# Altium schematic symbol library 自用.SchLib: 234 symbols (part 1 of 3)
Pins are listed as number, name and electrical type; pins without a type are passive.

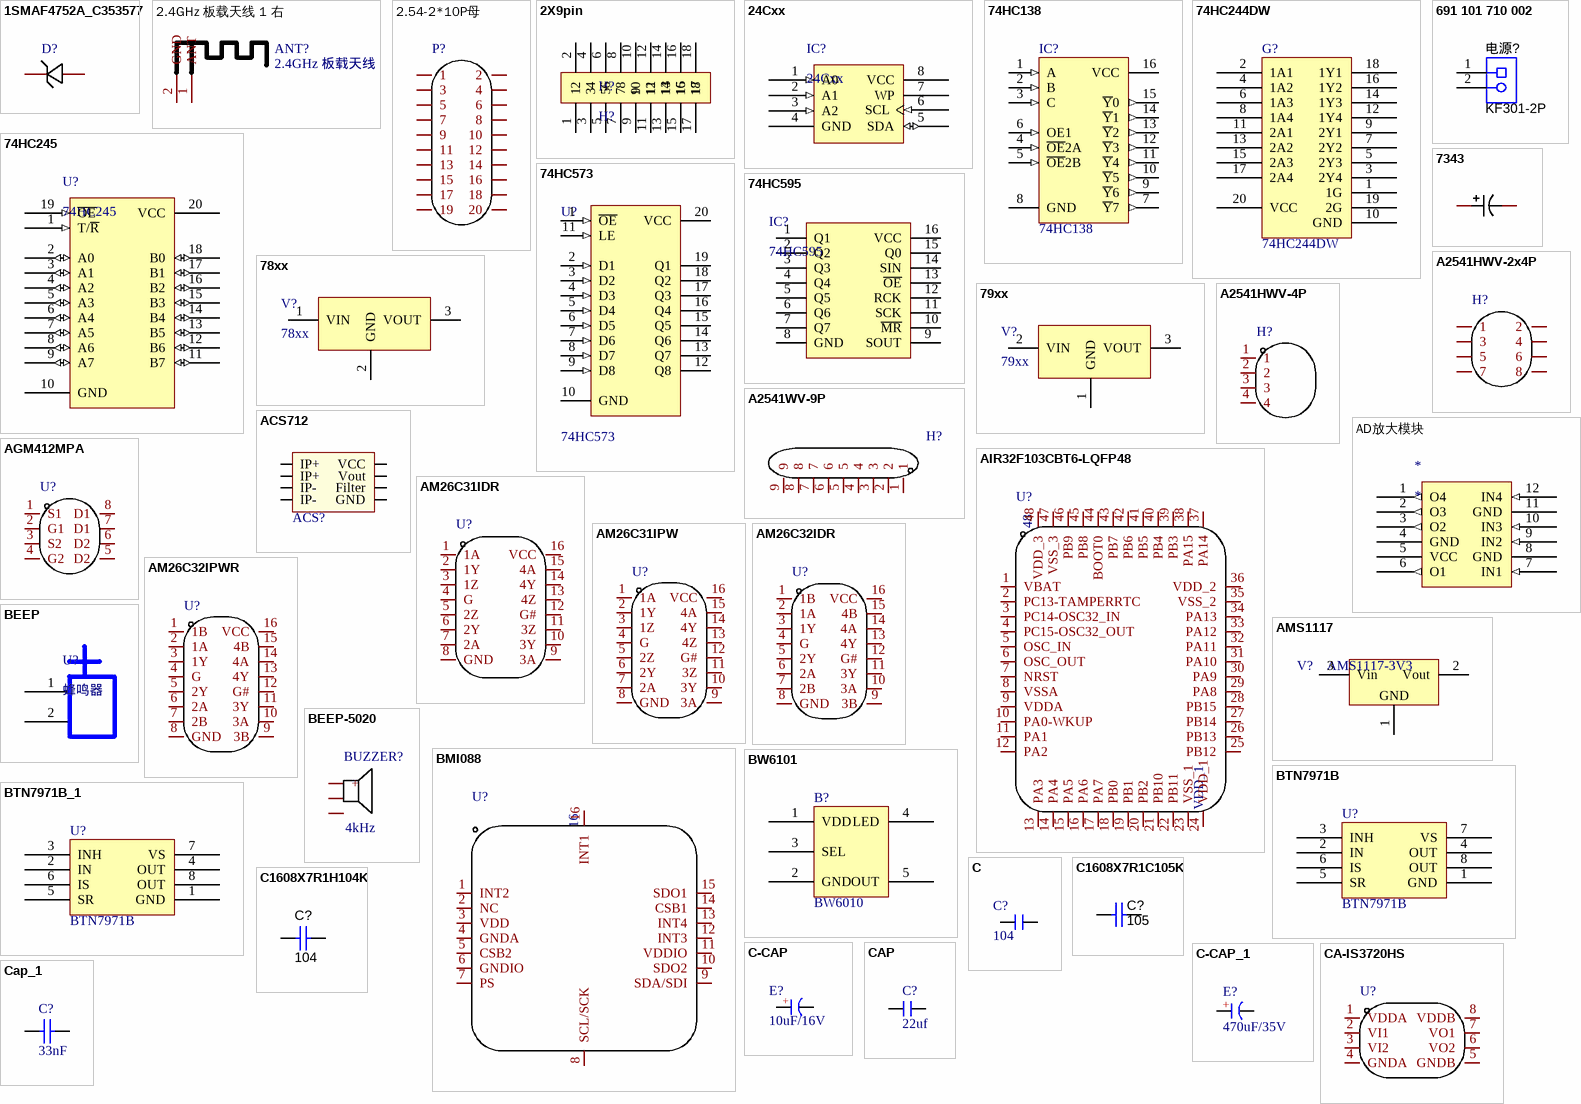
[diagram p0: symbols 1SMAF4752A_C353577 to Cap_1]

## 1SMAF4752A_C353577
designator D?  (value not drawn)
二极管配置:独立式;稳压值(标称值):33V;稳压值(范围):31.3V~34.9V;功率:1W;精度:±5%;; Manufacturer: 晶导微电子; Add into BOM: yes; Diode Configuration: 独立式; Zener Voltage (Nom): 33V; Reverse Leakage Current (Ir): 5uA@25V; Power Dissipation: 1W; Zener Impedance (Zzt): 45Ω; Tolerance: ±5%; Symbol: 1SMAF4752A; Device: 1SMAF4752A_C353577; LCSC Part Name: 1SMAF4752A; Supplier Part: C353577; Manufacturer Part: 1SMAF4752A; Supplier Footprint: SMAF; JLCPCB Part Class: Extended Part; Datasheet: https://atta.szlcsc.com/upload/public/pdf/source/20190103/C353591_7901ADC02E232AF6D8BA6DA3A998DE27.pdf; Supplier: LCSC; Convert to PCB: yes; Zener Voltage (Range): 31.3V~34.9V
footprint SMAF_L3.5-W2.6-LS4.7-RD
3D model SMAF_L3.5-W2.6-LS4.7-RD-1
pins: 1, 2

## 2.4GHz 板载天线 1 右
designator ANT?, comment 2.4GHz 板载天线
Symbol: 2.4GHz 板载天线 1 右; Add into BOM: no; Convert to PCB: yes; Device: 2.4GHz 板载天线 1 右; Name: 2.4GHz 板载天线
footprint 2.4GHz 板载天线 1 右
pins: 1 ANT, 2 GND

## 2.54-2*10P母
designator P?  (value not drawn)
间距:2.54mm;总孔位数:20;排数:2;行距:2.54mm;安装类型:直插;塑高:-;触头材质:黄铜;触头镀层:-;; Manufacturer: BOOMELE(博穆精密); Symbol: Header-Female-2.54_2x10; Add into BOM: yes; Pitch: 2.54mm; Number of Holes: 20; Device: 2.54-2*10P母; LCSC Part Name: 2x10P 2.54mm; Supplier Part: C30867; Manufacturer Part: 2.54-2*10P母; Supplier Footprint: 插件,P=2.54mm; JLCPCB Part Class: Extended Part; Datasheet: https://atta.szlcsc.com/upload/public/pdf/source/20151201/1457707599164.pdf; Supplier: LCSC; Convert to PCB: yes; Number of Rows: 2; Row Spacing: 2.54mm; Mounting Type: 直插; Insulation Height: -; Contact Material: 黄铜; Contact Plating: -
footprint HDR-TH_20P-P2.54-V-R2-C10-S2.54
3D model HDR-F-2.54_2x10
footprint HDR-TH_20P-P2.54-V-R2-C10-S2.54
pins: 1, 2, 3, 4, 5, 6, 7, 8, 9, 10, 11, 12, 13, 14, 15, 16, 17, 18, 19, 20

## 2X9pin
designator H?, comment H?
pins: 1, 2, 3, 4, 5, 6, 7, 8, 9, 10, 11, 12, 13, 14, 15, 16, 17, 18

## 24Cxx
designator IC?
外置EEPROM; 版权归属: 源创客; BOM名称: 外置EEPROM; 学习资源: www.ooocke.com
footprint SOP8 (（蒜米工坊）)
pins: 1 A0 (in), 2 A1 (in), 3 A2 (in), 4 GND, 5 SDA (io), 6 SCL (in), 7 WP, 8 VCC (power)

## 74HC138
designator IC?
138译码器; 版权归属: 源创客; 学习资源: www.ooocke.com; BOM名称: 138译码器
footprint SOP16_M (10.3*6.2*1.8mm（长宽高）)
pins: 1 A (in), 2 B (in), 3 C (in), 4 ~{OE}2A (in), 5 ~{OE}2B (in), 6 OE1 (in), 7 ~{Y}7 (out), 8 GND (power), 9 ~{Y}6 (out), 10 ~{Y}5 (out), 11 ~{Y}4 (out), 12 ~{Y}3 (out), 13 ~{Y}2 (out), 14 ~{Y}1 (out), 15 ~{Y}0 (out), 16 VCC (power)

## 74HC244DW
designator G?
footprint LQ_TSSOP20
footprint LQ_TSSOP20S
pins: 1 1G, 2 1A1, 3 2Y4, 4 1A2, 5 2Y3, 6 1A3, 7 2Y2, 8 1A4, 9 2Y1, 10 GND, 11 2A1, 12 1Y4, 13 2A2, 14 1Y3, 15 2A3, 16 1Y2, 17 2A4, 18 1Y1, 19 2G, 20 VCC

## 74HC245
designator U?
footprint SOP20_M (13*10.6*2.6（长宽高）)
pins: 1 T/~{R} (in), 2 A0 (io), 3 A1 (io), 4 A2 (io), 5 A3 (io), 6 A4 (io), 7 A5 (io), 8 A6 (io), 9 A7 (io), 10 GND, 11 B7 (io), 12 B6 (io), 13 B5 (io), 14 B4 (io), 15 B3 (io), 16 B2 (io), 17 B1 (io), 18 B0 (io), 19 ~{OE} (in), 20 VCC

## 74HC573
designator U?
D类三态输出锁存器; 版权归属: 源创客; BOM名称: 三态输出锁存器; 学习资源: www.ooocke.com
footprint SOP20_M (13*10.6*2.6（长宽高）)
pins: 1 ~{OE} (in), 2 D1 (in), 3 D2 (in), 4 D3 (in), 5 D4 (in), 6 D5 (in), 7 D6 (in), 8 D7 (in), 9 D8 (in), 10 GND (power), 11 LE (in), 12 Q8 (hiz), 13 Q7 (hiz), 14 Q6 (hiz), 15 Q5 (hiz), 16 Q4 (hiz), 17 Q3 (hiz), 18 Q2 (hiz), 19 Q1 (hiz), 20 VCC (power)

## 74HC595
designator IC?
8位移位寄存器; 版权归属: 源创客; BOM名称: 8位移位寄存器; 学习资源: www.ooocke.com
footprint SOP16_M (10.3*6.2*1.8mm（长宽高）)
pins: 1 Q1, 2 Q2, 3 Q3, 4 Q4, 5 Q5, 6 Q6, 7 Q7, 8 GND, 9 SOUT, 10 ~{MR}, 11 SCK, 12 RCK, 13 ~{OE}, 14 SIN, 15 Q0, 16 VCC

## 78xx
designator V?
线性稳压芯片; 版权归属: 源创客; BOM名称: 线性稳压芯片; 学习资源: www.ooocke.com
footprint TO252 (252晶体管)
footprint TO220A (220，3脚晶体管)
footprint TO220B (220，3脚晶体管)
footprint TO220C (220，3脚晶体管)
pins: 1 VIN, 2 GND, 3 VOUT

## 79xx
designator V?
线性稳压芯片; 版权归属: 源创客; BOM名称: 线性稳压芯片; 学习资源: www.ooocke.com
footprint TO252 (252晶体管)
footprint TO220A (220，3脚晶体管)
footprint TO220B (220，3脚晶体管)
footprint TO220C (220，3脚晶体管)
pins: 1 GND, 2 VIN, 3 VOUT

## 691 101 710 002
designator 电源?, comment KF301-2P
PartNumber: 691 101 710 002; Manufacturer: Wurth Elektronik eiSos; SymbolCreator: a0412235; CompType: Terminal Block; U/M: EA; SymbolVersion: 2013-09-04; PackageReference: Terminal Block, 5 mm, 2x1, TH; RoHS: Y; MountType: TH; ComponentLink1Description: Datasheet Link; ComponentLink1URL: http://katalog.we-online.de/em/datasheet/6911017100xx.pdf; Publisher: Texas Instruments; LatestRevisionDate: 2015-02-03; Supplier 1: Digi-Key; Supplier Part Number 1: 732-2026-ND; Supplier 2: Mouser; Supplier Part Number 2: 710-691101710002
footprint Wurth_691101710002
footprint LQ_PIN2
pins: 1, 2

## 7343
designator ?, comment T520V227M010ATE045  (value not drawn)
Manufacturer: KEMET(基美); Add into BOM: yes; Rated Voltage: 10V; Equivalent Series Resistance(ESR): 45mΩ 100kHz; Value: 220uF; Tolerance: ±20%; Symbol: T520V227M010ATE045; Device: T520V227M010ATE045; LCSC Part Name: 220uF ±20%; Supplier Part: C696811; Manufacturer Part: T520V227M010ATE045; Supplier Footprint: 7343-20; JLCPCB Part Class: Extended Part; Datasheet: https://atta.szlcsc.com/upload/public/pdf/source/20200618/C561875_0A5592AD2351515E8EDE474294F0F075.pdf; Supplier: LCSC; Convert to PCB: yes; Operating Temperature: -55℃~+105℃
3D model CASE-E_L7.3-W4.3-H4.1
pins: 1, 2

## A2541HWV-2x4P
designator H?  (value not drawn)
间距:2.54mm;总孔位数:8;排数:2;行距:2.54mm;安装类型:直插;塑高:-;触头材质:黄铜;触头镀层:金;; Manufacturer: CJT(长江连接器); Add into BOM: yes; Pitch: 2.54mm; Number of Holes: 8; Symbol: A2541HWV-2X4P; Device: A2541HWV-2x4P; LCSC Part Name: 2x4P 2.54mm; Supplier Part: C239344; Manufacturer Part: A2541HWV-2x4P; Supplier Footprint: 插件,P=2.54mm; JLCPCB Part Class: Extended Part; Datasheet: https://atta.szlcsc.com/upload/public/pdf/watermark/20190926/C239344_27DAB07DE76574AE7A670B0B983D7994.pdf; Supplier: LCSC; Convert to PCB: yes; Number of Rows: 2; Row Spacing: 2.54mm; Mounting Type: 直插; Insulation Height: -; Contact Material: 黄铜; Contact Plating: 金
footprint HDR-TH_8P-P2.54-V-F-R2-C4-S2.54-1
3D model HDR2.54-F-LI-2X4P
footprint HDR-TH_8P-P2.54-V-F-R2-C4-S2.54-1
pins: 1, 2, 3, 4, 5, 6, 7, 8

## A2541HWV-4P
designator H?  (value not drawn)
间距:2.54mm;总孔位数:4;排数:1;行距:-;安装类型:直插;塑高:-;触头材质:黄铜;触头镀层:金;; Manufacturer: CJT(长江连接器); Add into BOM: yes; Pitch: 2.54mm; Number of Holes: 4; Symbol: A2541HWV-4P; Device: A2541HWV-4P; LCSC Part Name: 1x4P 2.54mm 镀金; Supplier Part: C225501; Manufacturer Part: A2541HWV-4P; Supplier Footprint: 插件,P=2.54mm; JLCPCB Part Class: Extended Part; Datasheet: https://atta.szlcsc.com/upload/public/pdf/watermark/20190926/C225501_9C65E36D8432EFE3AFDBC14B21DF1904.pdf; Supplier: LCSC; Convert to PCB: yes; Number of Rows: 1; Row Spacing: -; Mounting Type: 直插; Insulation Height: -; Contact Material: 黄铜; Contact Plating: 金; LCSC On Sale: 1; JLCPCB On Sale: 1
footprint HDR-TH_4P-P2.54-V_A2541HWV-4P
3D model HDR-F-2.54_1x4
footprint HDR-TH_4P-P2.54-V_A2541HWV-4P
pins: 1, 2, 3, 4

## A2541WV-9P
designator H?  (value not drawn)
间距:2.54mm;总PIN位数:9;排数:1;插针结构:-;行距:-;安装类型:直插;圆针/方针:-;额定电流:-;额定电压:-;配合针长度:-;塑高:-;触头材质:黄铜;触头镀层:-;颜色:黑色;; Manufacturer: CJT(长江连接器); Add into BOM: yes; Pitch: 2.54mm; Symbol: A2541WV-9P; Device: A2541WV-9P; LCSC Part Name: 2.54mm 镀金; Supplier Part: C225484; Manufacturer Part: A2541WV-9P; Supplier Footprint: 插件,P=2.54mm; JLCPCB Part Class: Extended Part; Datasheet: https://atta.szlcsc.com/upload/public/pdf/watermark/20190926/C225484_974B77FD66DF97161C710CF4331E84B2.pdf; Supplier: LCSC; Convert to PCB: yes; Number of Pins: 9; Number of Rows: 1; Pin Structure: -; Row Spacing: -; Mounting Type: 直插; Circluar Pins/Square Pins: -; Current Rating (Max): -; Voltage Rating (Max): -; Length of Mating Pin: -; Insulation Height: -; Contact Material: 黄铜; Contact Plating: -; Color: 黑色
footprint HDR-TH_9P-P2.54-H-M
3D model HDR-TH_9P-P2.54-M-LI-1X9P
footprint HDR-TH_9P-P2.54-H-M
pins: 1, 2, 3, 4, 5, 6, 7, 8, 9

## ACS712
designator ACS?  (value not drawn)
footprint SOP-8 (6N137)
footprint SOP-8 (6N137)
footprint ACS712
pins: 1 IP+, 2 IP+, 3 IP-, 4 IP-, 5 GND, 6 Filter, 7 Vout, 8 VCC

## AD放大模块
designator *
footprint AD采集模块
pins: 1 O4 (out), 2 O3 (out), 3 O2 (out), 4 GND, 5 VCC, 6 O1 (out), 7 IN1 (in), 8 GND (power), 9 IN2 (in), 10 IN3 (in), 11 GND (power), 12 IN4 (in)

## AGM412MPA
designator U?  (value not drawn)
类型:1个N沟道和1个P沟道;漏源电压(Vdss):40V;连续漏极电流(Id):40A;功率(Pd):25W;导通电阻(RDS(on)@Vgs,Id):10mΩ@10V,15A;阈值电压(Vgs(th)@Id):1.6V@250uA;; Manufacturer: AGM-Semi(芯控源); Add into BOM: yes; Drain Source Voltage (Vdss): 40V; Continuous Drain Current (Id): 40A; Power Dissipation (Pd): 25W; Total Gate Charge (Qg@Vgs): 17nC@10V; Symbol: AGM412MPA; Device: AGM412MPA; LCSC Part Name: 1个N沟道和1个P沟道 耐压:40V 电流:40A; Supplier Part: C5340117; Manufacturer Part: AGM412MPA; Supplier Footprint: PDFN(5x6); Datasheet: https://atta.szlcsc.com/upload/public/pdf/source/20221228/AF5A06315FAE30274243598DF7A3270A.pdf; Supplier: LCSC; Convert to PCB: yes; Type: 1个N沟道和1个P沟道; Drain Source On Resistance (RDS(on)@Vgs,Id): 10mΩ@10V,15A; Gate Threshold Voltage (Vgs(th)@Id): 1.6V@250uA; Operating Temperature: -55~+150@(Tj)
footprint PDFN-8_L5.9-W5.2-P1.27-LS6.2-BL-1
3D model PDFN-8_L5.9-W5.2-P1.27-LS6.2-BL-1
pins: 1 S1, 2 G1, 3 S2, 4 G2, 5 D2, 6 D2, 7 D1, 8 D1

## AIR32F103CBT6-LQFP48
designator U?  NAME: VDD_1  NUMBER: 48  (hidden comment: AIR32F103CBT6-LQFP48)
Add into BOM: yes; Symbol: AIR32F103CBT6-LQFP48; Device: AIR32F103CBT6-LQFP48; LCSC Part Name: AIR32F103CBT6-LQFP48; Supplier Part: C9900021638; Manufacturer Part: AIR32F103CBT6-LQFP48; Supplier Footprint: LQFP-48; JLCPCB Part Class: Extended Part; Datasheet: https://atta.szlcsc.comnull; Supplier: LCSC; Convert to PCB: yes
footprint LQFP-48_L7.0-W7.0-P0.50-LS9.0-BL
3D model LQFP-48_L7.0-W7.0-H1.4-LS9.0-P0.50
pins: 1 VBAT, 2 PC13-TAMPERRTC, 3 PC14-OSC32_IN, 4 PC15-OSC32_OUT, 5 OSC_IN, 6 OSC_OUT, 7 NRST, 8 VSSA, 9 VDDA, 10 PA0-WKUP, 11 PA1, 12 PA2, 13 PA3, 14 PA4, 15 PA5, 16 PA6, 17 PA7, 18 PB0, 19 PB1, 20 PB2, 21 PB10, 22 PB11, 23 VSS_1, 24 VDD_1, 25 PB12, 26 PB13, 27 PB14, 28 PB15, 29 PA8, 30 PA9, 31 PA10, 32 PA11, 33 PA12, 34 PA13, 35 VSS_2, 36 VDD_2, 37 PA14, 38 PA15, 39 PB3, 40 PB4, 41 PB5, 42 PB6, 43 PB7, 44 BOOT0, 45 PB8, 46 PB9, 47 VSS_3, 48 VDD_3

## AM26C31IDR
designator U?  (value not drawn)
AM26C31 四路差分线路驱动器; Manufacturer: TI(德州仪器); Add into BOM: yes; Symbol: AM26C31IDR; Device: AM26C31IDR; LCSC Part Name: AM26C31IDR; Supplier Part: C34923; Manufacturer Part: AM26C31IDR; Supplier Footprint: SOIC-16; JLCPCB Part Class: Extended Part; Datasheet: https://www.ti.com/cn/lit/gpn/am26c31; Supplier: LCSC; Convert to PCB: yes
footprint SOIC-16_L9.9-W3.9-P1.27-LS6.0-BL
3D model SOIC-16_L9.9-W3.9-H1.8-LS6.0-P1.27
pins: 1 1A, 2 1Y, 3 1Z, 4 G, 5 2Z, 6 2Y, 7 2A, 8 GND, 9 3A, 10 3Y, 11 3Z, 12 G#, 13 4Z, 14 4Y, 15 4A, 16 VCC

## AM26C31IPW
designator U?  (value not drawn)
AM26C31 四路差分线路驱动器; Manufacturer: TI(德州仪器); Add into BOM: yes; Symbol: AM26C31IPW; Device: AM26C31IPW; LCSC Part Name: AM26C31IPW; Supplier Part: C962985; Manufacturer Part: AM26C31IPW; Supplier Footprint: TSSOP-16; JLCPCB Part Class: Extended Part; Datasheet: https://www.ti.com/cn/lit/gpn/am26c31; Supplier: LCSC; Convert to PCB: yes
footprint TSSOP-16_L5.0-W4.4-P0.65-LS6.4-BL
3D model TSSOP-16_L5.0-W4.4-H1.0-LS6.4-P0.65
pins: 1 1A, 2 1Y, 3 1Z, 4 G, 5 2Z, 6 2Y, 7 2A, 8 GND, 9 3A, 10 3Y, 11 3Z, 12 G#, 13 4Z, 14 4Y, 15 4A, 16 VCC

## AM26C32IDR
designator U?  (value not drawn)
类型:接收器;; Manufacturer: TI(德州仪器); Add into BOM: yes; Number of Drivers: 0; Number of Receivers: 4; Voltage - Supply: 4.5V~5.5V; Symbol: AM26C32IDR; Device: AM26C32IDR; LCSC Part Name: AM26C32四通道差分线接收器; Supplier Part: C36693; Manufacturer Part: AM26C32IDR; Supplier Footprint: SOIC-16; JLCPCB Part Class: Extended Part; Datasheet: https://www.ti.com/cn/lit/gpn/am26c32; Supplier: LCSC; Convert to PCB: yes; Type: 接收器; Operating Temperature: -40~+85
footprint SOIC-16_L9.9-W3.9-P1.27-LS6.0-BL
3D model SOIC-16_L9.9-W3.9-H1.8-LS6.0-P1.27
pins: 1 1B, 2 1A, 3 1Y, 4 G, 5 2Y, 6 2A, 7 2B, 8 GND, 9 3B, 10 3A, 11 3Y, 12 G#, 13 4Y, 14 4A, 15 4B, 16 VCC

## AM26C32IPWR
designator U?  (value not drawn)
类型:接收器;; Manufacturer: TI(德州仪器); Add into BOM: yes; Number of Drivers: 0; Number of Receivers: 4; Voltage - Supply: 4.5V~5.5V; Symbol: AM26C32IPWR; Device: AM26C32IPWR; LCSC Part Name: AM26C32 四路差分线接收器; Supplier Part: C478459; Manufacturer Part: AM26C32IPWR; Supplier Footprint: TSSOP-16; Datasheet: https://www.ti.com/cn/lit/gpn/am26c32; Supplier: LCSC; Convert to PCB: yes; Type: 接收器; Operating Temperature: -40~+85
footprint TSSOP-16_L5.0-W4.4-P0.65-LS6.4-BL
3D model TSSOP-16_L5.0-W4.4-H1.0-LS6.4-P0.65
pins: 1 1B, 2 1A, 3 1Y, 4 G, 5 2Y, 6 2A, 7 2B, 8 GND, 9 3B, 10 3A, 11 3Y, 12 G#, 13 4Y, 14 4A, 15 4B, 16 VCC

## AMS1117
designator V?, comment AMS1117-3V3
三端稳压芯片; BOM名称: 稳压芯片; 版权归属: 源创客; 学习资源: www.ooocke.com
footprint SOT223_M (6.4x7x1.6mm(长宽高))
footprint SOT89_M (4.6x4.3x1.6mm(长宽高))
pins: 1 GND, 2 Vout, 3 Vin

## BEEP
designator U?, comment 蜂鸣器
footprint BEEP 5x9x5.5 (5*9*5.5mm(脚距,直径,高度))
pins: 1, 2

## BEEP-5020
designator BUZZER?, comment value 4kHz  (hidden comment: FUET-5020)
驱动方式:无源(外部驱动);构造类型:电磁式;频率:4kHz;声压(SPL):75dB@3V,10cm;; Manufacturer: FUET(福声科技); Add into BOM: yes; Technology Type: 电磁式; Operating Voltage: 2V~4V; Symbol: FST-5020; Device: FUET-5020; LCSC Part Name: 电压 3V 频率 4KHZ; Supplier Part: C391029; Manufacturer Part: FUET-5020; Supplier Footprint: SMD,5x5mm; JLCPCB Part Class: Extended Part; Datasheet: https://atta.szlcsc.com/upload/public/pdf/source/20191031/C391029_B1B88F702A53C2C8669EAD87D742EF64.pdf; Supplier: LCSC; Convert to PCB: yes; Oscillator Circuit: 无源(外部驱动); Sound Pressure Level (SPL): 75dB@3V,10cm; Length: 5mm; Width: 5mm; Height: 2.2mm
footprint BUZ-SMD_FST-5020
3D model BUZ-SMD_3P-L5.0-W5.0-H2.0-P3.50
footprint BEEP_5020
pins: 1 +, 2, 3

## BMI088
designator U?  NUMBER: 16  (hidden comment: BMI088)
Manufacturer: Bosch(博世); Add into BOM: yes; Symbol: BMI088; Device: BMI088; LCSC Part Name: BMI088; Supplier Part: C194919; Manufacturer Part: BMI088; Supplier Footprint: LGA-16; JLCPCB Part Class: Extended Part; Datasheet: https://atta.szlcsc.com/upload/public/pdf/source/20180628/C194919_66CCF125FF968C218A4D358C68AC68D6.pdf; Supplier: LCSC; Convert to PCB: yes
footprint LGA-16_L4.5-W3.0-P0.50-BL
3D model LGA-16_L4.5-W3.0-H1.0-P0.50-BL
pins: 1 INT2, 2 NC, 3 VDD, 4 GNDA, 5 CSB2, 6 GNDIO, 7 PS, 8 SCL/SCK, 9 SDA/SDI, 10 SDO2, 11 VDDIO, 12 INT3, 13 INT4, 14 CSB1, 15 SDO1, 16 INT1

## BTN7971B
designator U?
电机驱动
footprint TO263-7A (263，7脚晶体管)
pins: 1 GND, 2 IN, 3 INH, 4 OUT, 5 SR, 6 IS, 7 VS, 8 OUT

## BTN7971B_1
designator U?, comment BTN7971B
电机驱动
footprint TO263-7A (263，7脚晶体管)
footprint BTN7971B
pins: 1 GND, 2 IN, 3 INH, 4 OUT, 5 SR, 6 IS, 7 VS, 8 OUT

## BW6101
designator B?, comment BW6010
footprint SOT23-5M (3x1.6x1.1mm(长宽高))
pins: 1 VDD, 2 GND, 3 SEL, 4 LED, 5 OUT

## C
designator C?, comment 104
无极性电容; BOM名称: 无极性贴片电容; 版权归属: 源创客; 学习资源: www.ooocke.com
footprint 0603C (1.6mmx0.8mm（蒜米工坊）)
footprint 0805C (2.0mmx1.2mm（蒜米工坊）)
footprint 1206C (3.2mmx1.6mm（蒜米工坊）)
footprint 2010C (5mmx2.5mm（蒜米工坊）)
footprint 2512C (6.5mmx3.2mm（蒜米工坊）)
footprint CC 1.8*3.6 (脚距1.8mm直径3.6mm)
footprint CC 2.2*5 (脚距2.2mm直径5mm)
footprint 谐振电容
footprint C0402
footprint C0603
footprint C0805
footprint C1206
pins: 1, 2

## C1608X7R1C105K
designator C?, comment 105
PartNumber: C1608X7R1C105K; Manufacturer: TDK; Polarized: N; CompType: Capacitor; Value: 1uF; ValueDisplayed: 1µF; U/M: EA; Cap_F: 0.000001; Tolerance_%: 10; ESR_Ohm: 0.0057; Value1: 0.0057 ohm; VDC_V: 16; Value2: 16V; TempCo: X7R; TaMin_C: -55; TaMax_C: 125; Cap_Case: 0603; SymbolVersion: 2008-07-09; PackageReference: 0603; RoHS: Y; MountType: SMT; Technology: Ceramic; Published: 2008-06-19; Publisher: Texas Instruments; LatestRevisionDate: 2014-05-28; ComponentLink1Description: Datasheet link; ComponentLink1URL: http://www.tdk.co.jp/tefe02/e412_c.pdf; Supplier 1: Digi-Key; Supplier Part Number 1: 445-1604-1-ND; Supplier 2: Farnell; Supplier Part Number 2: 1907343
signal-integrity model Cap
simulation model Cap
footprint 0603
footprint 0603M
footprint 0603L
footprint 0603_HV
footprint 0603S
footprint LQ_C0603
pins: 1, 2

## C1608X7R1H104K
designator C?, comment 104
PartNumber: C1608X7R1H104K; Manufacturer: TDK; Polarized: N; CompType: Capacitor; Value: 0.1uF; ValueDisplayed: 0.1µF; U/M: EA; Cap_F: 0.0000001; Tolerance_%: 10; ESR_Ohm: 0.017; Value1: 0.017 ohm; VDC_V: 50; Value2: 50V; TempCo: X7R; TaMin_C: -55; TaMax_C: 125; Cap_Case: 0603; SymbolVersion: 2008-07-09; PackageReference: 0603; RoHS: Y; MountType: SMT; Technology: Ceramic; Published: 2008-06-19; Publisher: Texas Instruments; LatestRevisionDate: 2014-05-28; ComponentLink1Description: Datasheet link; ComponentLink1URL: http://www.tdk.co.jp/tefe02/e412_c.pdf; Supplier 1: Digi-Key; Supplier Part Number 1: 445-1314-1-ND; Supplier 2: Farnell; Supplier Part Number 2: 1118182
signal-integrity model Cap
simulation model Cap
footprint 0603
footprint 0603M
footprint 0603L
footprint 0603_HV
footprint 0603S
footprint LQ_C0603
pins: 1, 2

## C-CAP
designator E?, comment 10uF/16V
电解电容; BOM名称: 直插电解电容; 版权归属: 源创客; 学习资源: www.ooocke.com
footprint CAP 1.5*4*8 (脚距1.5mm直径4mm高度8mm)
footprint CAP 2.0*5*11 (脚距2mm直径5mm高度11mm)
footprint CAP 2.5*5*11 (脚距2.5mm直径5mm高度11mm)
footprint CAP 2.5*6.3*11.2 (脚距2.5mm直径6.3mm高度11.2mm)
footprint CAP 3.5*8*11.5 (脚距3.5mm直径8mm高度11.5mm)
footprint CAP 5.0*10*12.5 (脚距5mm直径10mm高度12.5mm)
footprint CAP 5.0*12.5*20 (脚距5mm直径12.5mm高度20mm)
footprint CAP 7.5*16*25 (脚距7.5mm直径16mm高度25mm)
footprint CAP 7.5*18*35.5 (脚距7.5mm直径18mm高度35.5mm)
footprint CAP 10*22*31.5 (脚距10mm直径22mm高度31.5mm)
footprint CD A(3216) (长3.2mm，宽1.6mm，厚1.6mm)
footprint CD B(3528) (长3.5mm，宽2.8mm，厚1.9mm)
footprint CD C(6032) (长6.0mm，宽3.2mm，厚2.5mm)
footprint CD E(7343H) (长7.3mm，宽4.3mm，厚4.0mm)
footprint CD D(7343) (长7.3mm，宽4.3mm，厚2.8mm)
footprint CD S(2012) (长2.0mm，宽1.25mm，厚1.2mm)
pins: 1 A, 2 K
text: +

## C-CAP_1
designator E?, comment 470uF/35V
电解电容; BOM名称: 直插电解电容; 版权归属: 源创客; 学习资源: www.ooocke.com
footprint CAP 1.5*4*8 (脚距1.5mm直径4mm高度8mm)
footprint CAP 2.0*5*11 (脚距2mm直径5mm高度11mm)
footprint CAP 2.5*5*11 (脚距2.5mm直径5mm高度11mm)
footprint CAP 2.5*6.3*11.2 (脚距2.5mm直径6.3mm高度11.2mm)
footprint CAP 3.5*8*11.5 (脚距3.5mm直径8mm高度11.5mm)
footprint CAP 5.0*10*12.5 (脚距5mm直径10mm高度12.5mm)
footprint CAP 5.0*12.5*20 (脚距5mm直径12.5mm高度20mm)
footprint CAP 7.5*16*25 (脚距7.5mm直径16mm高度25mm)
footprint CAP 7.5*18*35.5 (脚距7.5mm直径18mm高度35.5mm)
footprint CAP 10*22*31.5 (脚距10mm直径22mm高度31.5mm)
footprint CD A(3216) (长3.2mm，宽1.6mm，厚1.6mm)
footprint CD B(3528) (长3.5mm，宽2.8mm，厚1.9mm)
footprint CD C(6032) (长6.0mm，宽3.2mm，厚2.5mm)
footprint CD E(7343H) (长7.3mm，宽4.3mm，厚4.0mm)
footprint CD D(7343) (长7.3mm，宽4.3mm，厚2.8mm)
footprint CD S(2012) (长2.0mm，宽1.25mm，厚1.2mm)
footprint CAP-SMD_BD10.0-L10.3-W10.3-FD
footprint C0805
footprint C1206
pins: 1 A, 2 K
text: +

## CA-IS3720HS
designator U?  (value not drawn)
2通道数字隔离器,电容隔离; Manufacturer: Chipanalog(川土微); Add into BOM: yes; Number of Forward Channels: 2; Number of Reverse Channels: 0; Data Rate(Max): 150Mbps; Isolation Voltage(Vrms): 3750; CMTI(kV/us): 150kV/us; Integrated Power Supply: 否; Rating: 工业级; Symbol: CA-IS3720HS; Device: CA-IS3720HS; LCSC Part Name: CA-IS371x/2x 高速单/双通道数字隔离器; Supplier Part: C428882; Manufacturer Part: CA-IS3720HS; Supplier Footprint: SOIC-8; JLCPCB Part Class: Extended Part; Datasheet: https://atta.szlcsc.com/upload/public/pdf/source/20191225/C476667_C604B526FA6E324C3A1BD7828318BF2D.pdf; Supplier: LCSC; Convert to PCB: yes; Operating Temperature: -40~125
footprint SOIC-8_L4.9-W3.9-P1.27-LS6.0-BL
3D model SOIC-8_L4.9-W3.9-H1.7-LS6.0-P1.27
pins: 1 VDDA, 2 VI1, 3 VI2, 4 GNDA, 5 GNDB, 6 VO2, 7 VO1, 8 VDDB

## CAP
designator C?, comment 22uf
无极性电容; BOM名称: 无极性贴片电容; 版权归属: 源创客; 学习资源: www.ooocke.com
footprint C0603
footprint C1206
footprint C0805
footprint C1206
pins: 1, 2

## Cap_1
designator C?, comment value 33nF  (hidden comment: Cap)
无极性电容; vol: 50v; Published: 8-Jun-2000; LatestRevisionDate: 17-Jul-2002; LatestRevisionNote: Re-released for DXP Platform.; PackageReference: RAD-0.3; Publisher: Altium Limited
footprint C 0201 (无极性贴片电容)
footprint C 0402 (无极性贴片电容)
footprint C 0603 (无极性贴片电容)
footprint C 0805 (无极性贴片电容)
footprint C 1206 (Footprint not found)
footprint C 1210 (无极性贴片电容)
footprint C 1808 (无极性贴片电容)
footprint C 1812 (无极性贴片电容)
footprint C 1825 (无极性贴片电容)
footprint C 2225 (无极性贴片电容)
footprint CAP-CBB 6.3*6.3*5 (脚距5mm高6.3mm厚3mm)
footprint CAP-CBB 10*12*8 (脚距10mm高12mm厚8mm)
footprint CAP-CBB 15*18*11 (脚距15mm高18mm厚11mm)
footprint CAP-CBB 20*23*17 (脚距20mm高23mm厚17mm)
footprint CAP-CBB-CL71 (7.2mm*2.3mm*6.5mm(长*宽*高）)
footprint CAP-CC 1.8*3.6 (脚距1.8mm直径3.6mm)
footprint CAP-CC 2.2*5 (脚距2.2mm直径5mm)
footprint CX 15*18*11 (脚距15mm高18mm厚11mm)
footprint CY 7.5*10*4 (脚距7.5mm，直径10mm，厚4mm)
footprint C 0603 (无极性贴片电容)
footprint CAP_0603 (Chip Capacitor, Body 1.6x0.8mm, 0603, IPC Medium Density)
pins: 1, 2

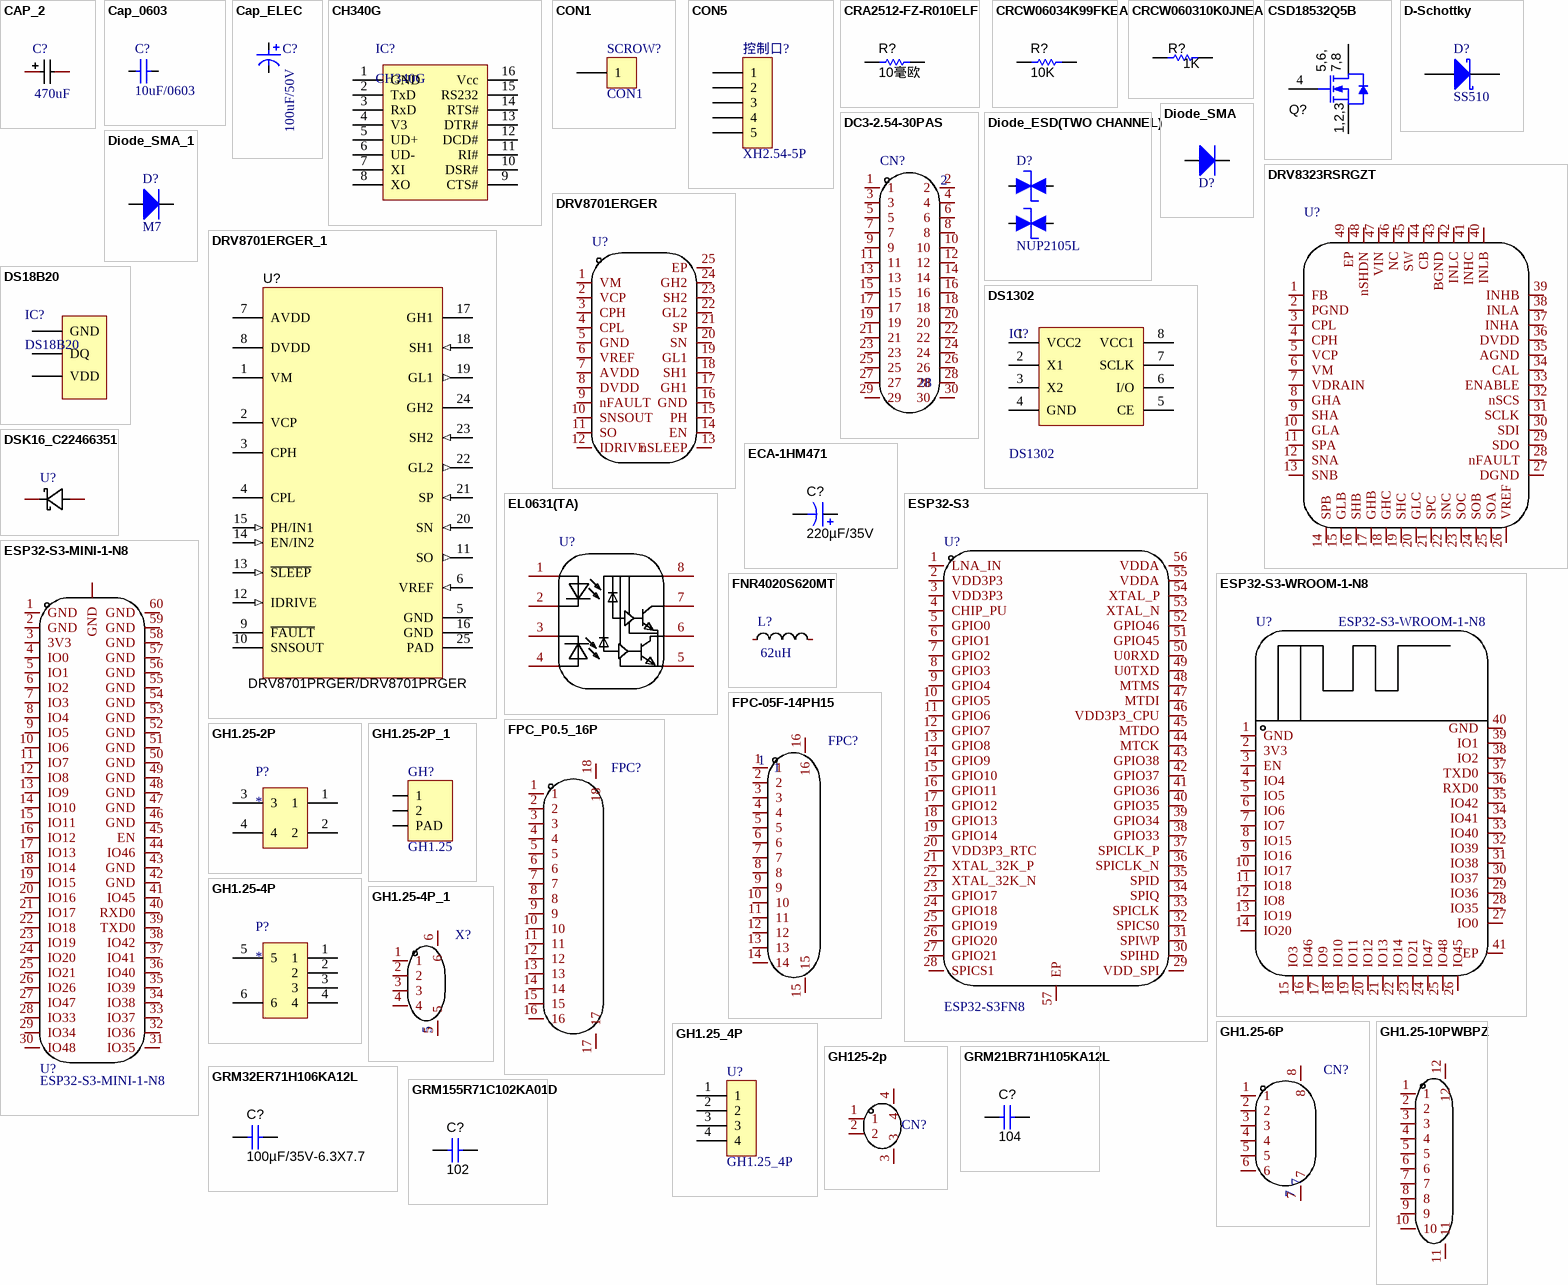
[diagram p1: symbols CAP_2 to GRM155R71C102KA01D]

## CAP_2
designator C?, comment value 470uF  (hidden comment: EEFSX0D471ER)
容值:470uF;精度:±20%;额定电压:2V;纹波电流:6.3A@100kHz;等效串联电阻:9mΩ@100kHz;类型:聚合物;; Manufacturer: PANASONIC(松下); Add into BOM: yes; Tolerance: ±20%; Rated Voltage: 2V; Type: 聚合物; φD: 4.3mm; L: 7.3mm; Lifetime @ Temp: 2000hrs@105; Symbol: EEFSX0D471ER; Device: EEFSX0D471ER; LCSC Part Name: 470uF ±20% 2V; Supplier Part: C139575; Manufacturer Part: EEFSX0D471ER; Supplier Footprint: SMD,4.3x7.3mm; JLCPCB Part Class: Extended Part; Datasheet: https://atta.szlcsc.com/upload/public/pdf/source/20180126/C165972_15169517270191308507.pdf; Supplier: LCSC; Convert to PCB: yes; Ripple Current: 6.3A@100kHz; Equivalent Series Resistance(ESR): 9mΩ@100kHz; Lead Spacing: -; Operating Temperature: -55~+105
footprint CAP-SMD_L7.3-W4.3 (Footprint not found)
3D model CASE-E_L7.3-W4.3-H4.1
pins: 1, 2

## Cap_0603
designator C?  value 10uF/0603  (hidden comment: Cap_0603)
Capacitor
footprint CAP_0603 (Chip Capacitor, Body 1.6x0.8mm, 0603, IPC Medium Density)
footprint CAP_0603 (Chip Capacitor, Body 1.6x0.8mm, 0603, IPC Medium Density)
pins: 1, 2

## Cap_ELEC
designator C?, comment 100uF/50V
footprint CAP_ELEC_CAPE5.0mm
footprint Super_Cap
footprint Capae (Capae10.4*10.8*10.22mm)
footprint CAP-2.2mm-5.1mm
footprint CAP-2.54mm-6.4mm
footprint CAP-SMD_BD5.0-L5.3-W5.3-FD_
footprint CAP_CM E(8*10.2) (贴片电解电容，直径8mm，高10.2mm)
pins: 1 +, 2 _

## CH340G
designator IC?
串口转USB; 版权归属: 源创客; BOM名称: 串口转USB; 学习资源: www.ooocke.com
footprint SOP16_M (10.3*6.2*1.8mm（长宽高）)
pins: 1 GND, 2 TxD, 3 RxD, 4 V3, 5 UD+, 6 UD-, 7 XI, 8 XO, 9 CTS#, 10 DSR#, 11 RI#, 12 DCD#, 13 DTR#, 14 RTS#, 15 RS232, 16 Vcc

## CON1
designator SCROW?
Connector
footprint LQ_SCROW3&5mm
pins: 1

## CON5
designator 控制口?, comment XH2.54-5P
Connector
footprint LQ_XH254-5PW
pins: 1, 2, 3, 4, 5

## CRA2512-FZ-R010ELF
designator R?, comment 10毫欧
PartNumber: CRA2512-FZ-R010ELF; Manufacturer: Bourns; CompType: Resistor; Value: 0.01; Value_Code: R010; Tolerance_%: 1; Value1: 1%; Power_W: 3; Value2: 3W; TempCo: 75 ppm/C; EIA_Code: E96; U/M: EA; SymbolVersion: 2009-05-29; PackageReference: 2512; RoHS: Y; Res_ohm: 0.01; MountType: SMT; Technology: Metal Film; Published: 2008-06-26; Publisher: Texas Instruments; LatestRevisionDate: 2014-05-22; ComponentLink1Description: Datasheet link; ComponentLink1URL: http://www.bourns.com/data/global/pdfs/CRA.pdf; Supplier 1: Digi-Key; Supplier Part Number 1: CRA2512-FZ-R010ELFCT-ND; Supplier 2: Mouser; Supplier Part Number 2: 652-CRA2512FZR010ELF; Supplier 3: Farnell; Supplier Part Number 3: 1435947
signal-integrity model Resistor
simulation model Resistor
footprint 2512M
footprint 2512L
footprint 2512
footprint 2512
footprint LQ_R2512
pins: 1, 2

## CRCW06034K99FKEA
designator R?, comment 10K
PartNumber: CRCW06034K99FKEA; Manufacturer: Vishay-Dale; CompType: Resistor; Res_ohm: 4990; Value_Code: 4k99; Tolerance_%: 1; Value1: 1%; Power_W: 0.1; Value2: 0.1W; VDC_V: 75; TempCo: 100 ppm/C; EIA_Code: E96; U/M: EA; SymbolVersion: 2009-05-29; Value: 10K; PackageReference: 0603; RoHS: Y; MountType: SMT; Technology: Thick Film; Published: 2008-06-26; Publisher: Texas Instruments; LatestRevisionDate: 2013-10-22; ComponentLink1Description: Datasheet link; ComponentLink1URL: http://www.vishay.com/docs/20035/dcrcwe3.pdf; Supplier 1: Digi-Key; Supplier Part Number 1: 541-4.99KHCT-ND; Supplier 2: Mouser; Supplier Part Number 2: 71-CRCW0603-4.99K-E3; Supplier 3: Farnell; Supplier Part Number 3: 1652885
signal-integrity model Resistor
simulation model Resistor
footprint 0603
footprint 0603M
footprint 0603L
footprint 0603_HV
footprint LQ_R0603
pins: 1, 2

## CRCW060310K0JNEA
designator R?, comment 1K
PartNumber: CRCW060310K0JNEA; Manufacturer: Vishay-Dale; CompType: Resistor; Res_ohm: 10000; Value_Code: 10k0; Tolerance_%: 5; Value1: 5%; Power_W: 0.1; Value2: 0.1W; VDC_V: 75; TempCo: 200 ppm/C; EIA_Code: E24; U/M: EA; SymbolVersion: 2009-05-29; Value: 1k; PackageReference: 0603; RoHS: Y; MountType: SMT; Technology: Thick Film; Published: 2008-06-26; Publisher: Texas Instruments; LatestRevisionDate: 2013-08-23; ComponentLink1Description: Datasheet link; ComponentLink1URL: http://www.vishay.com/docs/20035/dcrcwe3.pdf; Supplier 1: Digi-Key; Supplier Part Number 1: 541-10KGCT-ND; Supplier 2: Farnell; Supplier Part Number 2: 1562240; Supplier 3: Newark; Supplier Part Number 3: 52K8066
signal-integrity model Resistor
simulation model Resistor
footprint 0603
footprint 0603M
footprint 0603L
footprint 0603_HV
footprint LQ_R0603
pins: 1, 2

## CSD18532Q5B
designator Q?, comment TPH1R403NL/CSD18532Q5B  (value not drawn)
Manufacturer: Texas Instruments; Alternate Manufacturer: None; CompType: MOSFET; U/M: EA; ChType: N; Value: 60V; VdsMax_V: 60; Value1: 3.3 ohm; Rdson45_Ohm: 3.3; Value2: 27 nC; QgTyp_nC: 27; Vgs_V: 1.6; IdsMax_A: 172; SymbolVersion: 2008-07-09; PartNumber: CSD18532Q5B; PackageReference: SON 5x6mm; RoHS: Y; MountType: SMT; Published: 2008-06-19; Publisher: Texas Instruments; LatestRevisionDate: 2014-05-23; LatestRevisionNote: Added parts.; ComponentLink1Description: Datasheet link; ComponentLink1URL: http://www.ti.com/lit/gpn/csd18532q5b; Supplier 1: Digi-Key; Supplier Part Number 1: 296-35628-1-ND; Supplier 2: Mouser; Supplier Part Number 2: 595-CSD18532Q5B; Supplier 3: Newark; Supplier Part Number 3: 63W5308
footprint TRANS_NexFET_Q5B
pins: 1 S, 2 S, 3 S, 4 G, 5 D, 6 D, 7 D, 8 D
text: 5,6,; 7,8; 1,2,3

## D-Schottky
designator D?  Type: SS510  (hidden comment: D-Schottky)
肖特基二极管; Published: 8-Jun-2000; LatestRevisionDate: 17-Jul-2002; LatestRevisionNote: Re-released for DXP Platform.; PackageReference: SMB; Publisher: Altium Limited; Code_JEDEC: DO-214-AA
footprint DIODE-SMA (4.5x2.6*2.2mm（长宽高，不包括引脚）)
footprint DIODE-SMC (SS34贴片肖特基二极管)
footprint DIODE-SMB (DO-214-AA/SMB; 2 C-Bend Leads; Body 5.3 x 3.6 mm, inc. leads (LxW))
footprint SOD-123 (1N5819小型贴片)
footprint DIODE-AXL (直插二极管)
footprint SOD-323 (1N5819)
footprint DIODE-1206 (玻璃封装二极管)
footprint SMA
pins: 1 A, 2 K

## DC3-2.54-30PAS
designator CN?  NAME: 28  NUMBER: 2  (hidden comment: DC3-2.54-30PAS)
间距:2.54mm;结构:2x15P;安装方式:直插;排数:2;每排PIN数:15;; Manufacturer: ZHOURI(洲日); Add into BOM: yes; Pitch: 2.54mm; Number of Positions or Pins: 2x15P; Holder Type: 直插; Number of PINs Per Row: 15; Symbol: DC3-2.54-30PAS; Device: DC3-2.54-30PAS; LCSC Part Name: 2.54mm 2x15P 排数:2 每排P数:15; Supplier Part: C5156667; Manufacturer Part: DC3-2.54-30PAS; Supplier Footprint: 插件,P=2.54mm; JLCPCB Part Class: Extended Part; Datasheet: https://item.szlcsc.com/datasheet/DC3-2.54-30PAS/5790767.html; Supplier: LCSC; Convert to PCB: yes; Number of Rows: 2
footprint IDC-TH_30P-P2.54-V-R2-C15-S2.54-1
3D model IDC-TH_30P-P2.54-V-R2-C15-S2.54-1
pins: 1, 2, 3, 4, 5, 6, 7, 8, 9, 10, 11, 12, 13, 14, 15, 16, 17, 18, 19, 20, 21, 22, 23, 24, 25, 26, 27, 28, 29, 30

## Diode_ESD(TWO CHANNEL)
designator D?, comment NUP2105L
ESD PROTECTION DIODE(TWO CHANNEL)
footprint SOT23 (SOT23, 3-Leads, Body 3.0x2.5mm (max), Pitch 0.95mm, IPC Medium Density)
pins: 1, 2 1, 3 1, 3 1

## Diode_SMA
designator D?  (value not drawn)
Diode
footprint DO-214AC (JEDEC DO214 variation AC. SMA)
pins: 1 A, 2 K

## Diode_SMA_1
designator D?, comment SMA: M7  (hidden comment: Diode_SMA)
Diode
footprint DO-214AC (JEDEC DO214 variation AC. SMA)
footprint DO-214AC (JEDEC DO214 variation AC. SMA)
pins: 1 A, 2 K

## DRV8323RSRGZT
designator U?  (value not drawn)
DRV8323R 具有降压稳压器和电流分流放大器的最大 65V 三相智能栅极驱动器; Manufacturer: TI(德州仪器); Add into BOM: yes; Peak Current: 2A；1A; Interface: SPI; Symbol: DRV8323RSRGZT; Device: DRV8323RSRGZT; LCSC Part Name: 5mA 无刷直流BLDC电机驱动芯片 60V; Supplier Part: C2653553; Manufacturer Part: DRV8323RSRGZT; Supplier Footprint: VQFN-48-EP(7x7); JLCPCB Part Class: Extended Part; Datasheet: https://www.ti.com/cn/lit/gpn/drv8323r; Supplier: LCSC; Convert to PCB: yes; Voltage - Supply: -; Operating Temperature: -40~+125
footprint VQFN-48_L7.0-W7.0-P0.50-BL-EP5.5
3D model VQFN-48_L7.0-W7.0-P0.50-BL-EP5.5
pins: 1 FB, 2 PGND, 3 CPL, 4 CPH, 5 VCP, 6 VM, 7 VDRAIN, 8 GHA, 9 SHA, 10 GLA, 11 SPA, 12 SNA, 13 SNB, 14 SPB, 15 GLB, 16 SHB, 17 GHB, 18 GHC, 19 SHC, 20 GLC, 21 SPC, 22 SNC, 23 SOC, 24 SOB, 25 SOA, 26 VREF, 27 DGND, 28 nFAULT, 29 SDO, 30 SDI, 31 SCLK, 32 nSCS, 33 ENABLE, 34 CAL, 35 AGND, 36 DVDD, 37 INHA, 38 INLA, 39 INHB, 40 INLB, 41 INHC, 42 INLC, 43 BGND, 44 CB, 45 SW, 46 NC, 47 VIN, 48 nSHDN, 49 EP

## DRV8701ERGER
designator U?  (value not drawn)
DRV8701 DRV8701 H 桥栅极驱动器; Manufacturer: TI(德州仪器); Add into BOM: yes; Supply Voltage: 0V~5.5V; Interface: 并行; Symbol: DRV8701ERGER; Device: DRV8701ERGER; LCSC Part Name: DRV8701ERGER; Supplier Part: C90964; Manufacturer Part: DRV8701ERGER; Supplier Footprint: VQFN-24; JLCPCB Part Class: Extended Part; Datasheet: https://atta.szlcsc.com/upload/public/pdf/source/20190902/C90964_2DCC43C1A4AE58E3ED96296E8C78517C.pdf; Supplier: LCSC; Convert to PCB: yes; Type: 有刷直流电机; current output: -; Operating Temperature: -40~+125@(Ta)
footprint VQFN-24_L4.0-W4.0-P0.50-BL-EP2.8
3D model VQFN-24_L4.0-W4.0-H1.0-P0.50
pins: 1 VM, 2 VCP, 3 CPH, 4 CPL, 5 GND, 6 VREF, 7 AVDD, 8 DVDD, 9 nFAULT, 10 SNSOUT, 11 SO, 12 IDRIVE, 13 nSLEEP, 14 EN, 15 PH, 16 GND, 17 GH1, 18 SH1, 19 GL1, 20 SN, 21 SP, 22 GL2, 23 SH2, 24 GH2, 25 EP

## DRV8701ERGER_1
designator U?, comment DRV8701PRGER/DRV8701PRGER
PartNumber: DRV8701ERGER; Alternate PartNumber: DRV8701ERGET; Manufacturer: Texas Instruments; SymbolCreator: Altium; CompType: IC; U/M: EA; SymbolVersion: 2015-02-10; PackageReference: RGE0024F; MountType: SMT; ComponentLink1Description: Datasheet Link; ComponentLink1URL: https://sps06.itg.ti.com/sites/KMS/crossdivteams/altium/docs/ComponentDatasheets/DRV8701_011615.pdf; Publisher: Texas Instruments; LatestRevisionDate: 2015-02-10; Alternate Manufacturer: Texas Instruments
footprint RGE0024F
footprint RGE0024F_NV
pins: 1 VM (power), 2 VCP (power), 3 CPH, 4 CPL, 5 GND (power), 6 VREF (in), 7 AVDD (power), 8 DVDD (power), 9 ~{FAULT} (oc), 10 SNSOUT (oc), 11 SO (out), 12 IDRIVE (in), 13 ~{SLEEP} (in), 14 EN/IN2 (in), 15 PH/IN1 (in), 16 GND (power), 17 GH1 (power), 18 SH1 (in), 19 GL1 (out), 20 SN (in), 21 SP (in), 22 GL2 (out), 23 SH2 (in), 24 GH2 (power), 25 PAD (power)
1 alternate drawing of the same symbol

## DS18B20
designator IC?
数字温度计; 版权归属: 源创客; BOM名称: 数字温度计; 学习资源: www.ooocke.com
footprint TO92A (92晶体管)
footprint TO92B (92晶体管)
pins: 1 GND, 2 DQ, 3 VDD

## DS1302
designator IC?
实时时钟芯片; 版权归属: 源创客; BOM名称: 实时时钟芯片; 学习资源: www.ooocke.com
footprint SOP8 (（蒜米工坊）)
pins: 1 VCC2, 2 X1, 3 X2, 4 GND, 5 CE, 6 I/O, 7 SCLK, 8 VCC1

## DSK16_C22466351
designator U?  (value not drawn)
二极管配置:独立式;正向压降(Vf):700mV@1A;直流反向耐压(Vr):60V;整流电流:1A;; Manufacturer: R+O(宏嘉诚); Manufacturer Part: DSK16; Add into BOM: yes; Diode Configuration: 独立式; Voltage - DC Reverse(Vr): 60V; Current - Rectified: 1A; Reverse Leakage Current (Ir): 200uA@60V; Operating Junction Temperature Range: -55~+150; Non-Repetitive Peak Forward Surge Current: 25A; Symbol: DSK16_C22466351; Device: DSK16_C22466351; LCSC Part Name: 电压:60V 电流:1A; Supplier Part: C22466351; Supplier Footprint: SOD-123FL; JLCPCB Part Class: Extended Part; Datasheet: https://item.szlcsc.com/datasheet/DSK16/24165510.html; Supplier: LCSC; Convert to PCB: yes; Voltage - Forward(Vf@If): 700mV@1A
footprint SOD-123FL_L2.8-W1.9-LS3.7-RD
3D model SOD-123FL_L2.8-W1.9-LS3.7-RD
pins: 1 K, 2 A

## ECA-1HM471
designator C?, comment 220µF/35V
PartNumber: ECA-1HM471; Manufacturer: Panasonic; Polarized: Y; CompType: Capacitor; Value: 470uF; ValueDisplayed: 330µF/35V; U/M: EA; Cap_F: 0.00047; Tolerance_%: 20; Value1: Unknown; VDC_V: 50; Value2: 50V; IRMS_A: 0.65; TaMin_C: -40; TaMax_C: 85; Cap_Case: 10x20mm; SymbolVersion: 2008-07-09; PackageReference: D10xL20mm; RoHS: Y; MountType: TH; Technology: AL; Series: M; Publisher: Texas Instruments; LatestRevisionDate: 2015-02-10; ComponentLink1Description: Datasheet link; ComponentLink1URL: http://industrial.panasonic.com/www-data/pdf/ABA0000/ABA0000CE12.pdf; Supplier 1: Digi-Key; Supplier Part Number 1: P5185-ND; Supplier 2: Mouser; Supplier Part Number 2: 667-ECA-1HM471; Supplier 3: Farnell; Supplier Part Number 3: 9693815
signal-integrity model Cap
simulation model Cap
footprint M_1000x2000
footprint LQ_C8X10
pins: 1 +, 2 -

## EL0631(TA)
designator U?  (value not drawn)
输入类型:DC;电源电压:7V;共模瞬变抗扰度CMTI:10kV/us;数据速率:10Mbit/s;传播延迟tpLH/tpHL:100ns；100ns;; Manufacturer: EVERLIGHT(亿光); Add into BOM: yes; Input Type: DC; Supply Voltage: 7V; Isolation Voltage(rms): 3.75kV; Number of Channels: 2; Symbol: EL0631(TA); Device: EL0631(TA); LCSC Part Name: DC输入 2通道; Supplier Part: C465944; Manufacturer Part: EL0631(TA); Supplier Footprint: SOP-8; JLCPCB Part Class: Extended Part; Datasheet: https://atta.szlcsc.com/upload/public/pdf/source/20191217/C465944_BD7E258C801831E1F81037B40BF74E26.pdf; Supplier: LCSC; Convert to PCB: yes; Common Mode Transient Immunity (CMTI): 10kV/us; Data Rate: 10Mbit/s; Propagation Delay tpLH/tpHL: 100ns；100ns; Operating Temperature: -40~+100
footprint SMD-8_L4.9-W4.0-P1.27-LS5.9-BL
3D model SMD-8_L4.9-W3.9-H3.2-LS5.9-P1.27
pins: 1, 2, 3, 4, 5, 6, 7, 8

## ESP32-S3
designator U?, comment ESP32-S3FN8
Manufacturer: ESPRESSIF(乐鑫); Add into BOM: yes; Symbol: ESP32-S3; Device: ESP32-S3; LCSC Part Name: 支持2.4GHz WIFI和低功耗蓝牙的MCU SoC; Supplier Part: C2913196; Manufacturer Part: ESP32-S3FN8; Supplier Footprint: QFN-56-EP(7x7); JLCPCB Part Class: 扩展库; Datasheet: https://atta.szlcsc.com/upload/public/pdf/source/20220211/8CA5C1C53CA8E3D1871752073201D38A.pdf; Supplier: LCSC; Convert to PCB: yes; Name: ESP32-S3FN8
footprint QFN-56_L7.0-W7.0-P0.40-TL-EP4.0
pins: 1 LNA_IN, 2 VDD3P3, 3 VDD3P3, 4 CHIP_PU, 5 GPIO0, 6 GPIO1, 7 GPIO2, 8 GPIO3, 9 GPIO4, 10 GPIO5, 11 GPIO6, 12 GPIO7, 13 GPIO8, 14 GPIO9, 15 GPIO10, 16 GPIO11, 17 GPIO12, 18 GPIO13, 19 GPIO14, 20 VDD3P3_RTC, 21 XTAL_32K_P, 22 XTAL_32K_N, 23 GPIO17, 24 GPIO18, 25 GPIO19, 26 GPIO20, 27 GPIO21, 28 SPICS1, 29 VDD_SPI, 30 SPIHD, 31 SPIWP, 32 SPICS0, 33 SPICLK, 34 SPIQ, 35 SPID, 36 SPICLK_N, 37 SPICLK_P, 38 GPIO33, 39 GPIO34, 40 GPIO35, 41 GPIO36, 42 GPIO37, 43 GPIO38, 44 MTCK, 45 MTDO, 46 VDD3P3_CPU, 47 MTDI, 48 MTMS, 49 U0TXD, 50 U0RXD, 51 GPIO45, 52 GPIO46, 53 XTAL_N, 54 XTAL_P, 55 VDDA, 56 VDDA, 57 EP

## ESP32-S3-MINI-1-N8
designator U?
Manufacturer: ESPRESSIF(乐鑫); Add into BOM: yes; Symbol: ESP32-S3-MINI-1-N8; Device: ESP32-S3-MINI-1-N8; LCSC Part Name: ESP32-S3-MINI-1-N8; Supplier Part: C2913206; Manufacturer Part: ESP32-S3-MINI-1-N8; Supplier Footprint: -; JLCPCB Part Class: 扩展库; Datasheet: https://atta.szlcsc.com/upload/public/pdf/source/20220425/7F117D7A09F85946280540FD9EFDF9F3.pdf; Supplier: LCSC; Convert to PCB: yes; Name: ESP32-S3-MINI-1-N8
footprint BULETM-SMD_ESP32-S3-MINI-1-N8
pins: 1 GND, 2 GND, 3 3V3, 4 IO0, 5 IO1, 6 IO2, 7 IO3, 8 IO4, 9 IO5, 10 IO6, 11 IO7, 12 IO8, 13 IO9, 14 IO10, 15 IO11, 16 IO12, 17 IO13, 18 IO14, 19 IO15, 20 IO16, 21 IO17, 22 IO18, 23 IO19, 24 IO20, 25 IO21, 26 IO26, 27 IO47, 28 IO33, 29 IO34, 30 IO48, 31 IO35, 32 IO36, 33 IO37, 34 IO38, 35 IO39, 36 IO40, 37 IO41, 38 IO42, 39 TXD0, 40 RXD0, 41 IO45, 42 GND, 43 GND, 44 IO46, 45 EN, 46 GND, 47 GND, 48 GND, 49 GND, 50 GND, 51 GND, 52 GND, 53 GND, 54 GND, 55 GND, 56 GND, 57 GND, 58 GND, 59 GND, 60 GND, GND

## ESP32-S3-WROOM-1-N8
designator U?
Manufacturer: ESPRESSIF(乐鑫); Add into BOM: yes; Symbol: ESP32-S3-WROOM-1-N8; Device: ESP32-S3-WROOM-1-N8; LCSC Part Name: ESP32-S3-WROOM-1-N8; Supplier Part: C2913198; Manufacturer Part: ESP32-S3-WROOM-1-N8; Supplier Footprint: SMD,18x25.5mm; JLCPCB Part Class: 扩展库; Datasheet: https://atta.szlcsc.com/upload/public/pdf/source/20221026/9A44C6421221D672346AAE72DF9F8146.pdf; Supplier: LCSC; Convert to PCB: yes; Name: ESP32-S3-WROOM-1-N8
footprint WIFIM-SMD_ESP32-S3-WROOM-1-N8
pins: 1 GND, 2 3V3, 3 EN, 4 IO4, 5 IO5, 6 IO6, 7 IO7, 8 IO15, 9 IO16, 10 IO17, 11 IO18, 12 IO8, 13 IO19, 14 IO20, 15 IO3, 16 IO46, 17 IO9, 18 IO10, 19 IO11, 20 IO12, 21 IO13, 22 IO14, 23 IO21, 24 IO47, 25 IO48, 26 IO45, 27 IO0, 28 IO35, 29 IO36, 30 IO37, 31 IO38, 32 IO39, 33 IO40, 34 IO41, 35 IO42, 36 RXD0, 37 TXD0, 38 IO2, 39 IO1, 40 GND, 41 EP

## FNR4020S620MT
designator L?  value 62uH  (hidden comment: FNR4020S620MT)
电感值:62uH;精度:±20%;额定电流:520mA;饱和电流(Isat):710mA;类型:磁胶屏蔽电感;; Manufacturer: cjiang(长江微电); Add into BOM: yes; Tolerance: ±20%; Current Rating: 520mA; Current - Saturation(Isat): 710mA; DC Resistance(DCR): 1.17Ω; Type: 磁胶屏蔽电感; Symbol: FNR4020S620MT; Device: FNR4020S620MT; LCSC Part Name: 62uH ±20% 710mA; Supplier Part: C167846; Manufacturer Part: FNR4020S620MT; Supplier Footprint: SMD,4x4mm; JLCPCB Part Class: Extended Part; Datasheet: https://item.szlcsc.com/datasheet/FNR4020S620MT/179229.html; Supplier: LCSC; Convert to PCB: yes
footprint IND-SMD_L4.0-W4.0_FNR40XXS
3D model IND-SMD_L4.0-W4.0-H2.6_FNR40XXS
pins: 1, 2

## FPC-05F-14PH15
designator FPC?  NAME: 1  (hidden comment: FPC-05F-14PH15)
间距:0.5mm;触点数量:14P;锁定特性:翻盖式;触点类型:下接;安装类型:卧贴;工作温度范围:-25~+85;; Manufacturer: XUNPU(讯普); Add into BOM: yes; Pitch: 0.5mm; Number of Contacts: 14P; Locking Feature: 翻盖式; FFC, FCB Thickness: 0.3mm; Symbol: FPC-05F-14PH15; Device: FPC-05F-14PH15; LCSC Part Name: 间距:0.5mm P数:14P 翻盖式 下接; Supplier Part: C2856818; Manufacturer Part: FPC-05F-14PH15; Supplier Footprint: SMD,P=0.5mm,卧贴; JLCPCB Part Class: Extended Part; Datasheet: https://atta.szlcsc.com/upload/public/pdf/source/20210922/C2856818_BF9A09706769A6AB1B749235C5052B10.pdf; Supplier: LCSC; Convert to PCB: yes; Contact Type: 下接; Mounting Type: 卧贴; Height Above Board: 1.5mm; Operating Temperature Range: -25~+85; NUMBER: 1
footprint FPC-SMD_14P-P0.50_XUNPU_FPC-05F-14PH15
3D model FPC-SMD_14P-P0.50_XUNPU_FPC-05F-14PH15
pins: 1, 2, 3, 4, 5, 6, 7, 8, 9, 10, 11, 12, 13, 14, 15, 16

## FPC_P0.5_16P
designator FPC?, comment F0500WR-S-16PNLNG1GT0R  (value not drawn)
间距:0.5mm;触点数量:16P;锁定特性:抽屉式;触点类型:上接;安装类型:卧贴;; Manufacturer: HR(灿达); Add into BOM: yes; Pitch: 0.5mm; Number of Contacts: 16P; Locking Feature: 抽屉式; FFC, FCB Thickness: 0.3mm; Symbol: F0500WR-S-16PNLNG1GT0R; Device: F0500WR-S-16PNLNG1GT0R; LCSC Part Name: 间距:0.5mm P数:16P 抽屉式 上接 镀金 无卤; Supplier Part: C247900; Manufacturer Part: F0500WR-S-16PNLNG1GT0R; Supplier Footprint: SMD,P=0.5mm,卧贴; JLCPCB Part Class: Extended Part; Datasheet: https://atta.szlcsc.com/upload/public/pdf/source/20180730/C247900_32FE1966DB0ECF7BC9BBF25D2DEC9A6F.pdf; Supplier: LCSC; Convert to PCB: yes; Contact Type: 上接; Mounting Type: 卧贴; Height Above Board: 2mm
footprint FPC-SMD_P0.50-16P_F0500WR-SJ
3D model FPC-SMD_P0.50-16P_F0500WR-SJ
pins: 1, 2, 3, 4, 5, 6, 7, 8, 9, 10, 11, 12, 13, 14, 15, 16, 17, 18

## GH1.25-2P
designator P?
footprint GH1.25-2P-卧贴
footprint GH1.25-2P-立式
pins: 1, 2, 3, 4

## GH1.25-2P_1
designator GH?, comment GH1.25
footprint GH1.25-WS-2P (卧贴)
pins: 0 PAD, 1, 2

## GH1.25-4P
designator P?
footprint GH1.25-4P-卧贴
footprint GH1.25-4P-立式
pins: 1, 2, 3, 4, 5, 6

## GH1.25-4P_1
designator X?, comment NUMBER: 5  (hidden comment: GH125-S04CCA-00)
插针结构:1x4P;间距:1.25mm;安装方式:立贴;行距:-;总PIN数:4P;排数:1;每排PIN数:4;参考系列:-;额定电流:1A;工作温度范围:-25~+85;; Manufacturer: JS(钜硕电子); Add into BOM: yes; Pins Structure: 1x4P; Pitch: 1.25mm; Number of PINs Per Row: 4; Current Rating (Max): 1A; Symbol: GH125-S04CCA-00; Device: GH125-S04CCA-00; LCSC Part Name: 1x4P 间距:1.25mm 立贴 带扣; Supplier Part: C2886782; Manufacturer Part: GH125-S04CCA-00; Supplier Footprint: SMD,P=1.25mm; JLCPCB Part Class: Extended Part; Datasheet: https://atta.szlcsc.com/upload/public/pdf/source/20210818/35C7AE18760A04DD9417CB3CEC0962A3.pdf; Supplier: LCSC; Convert to PCB: yes; Mounting Style: 立贴; Row Spacing: -; Number of Pins: 4P; Number of Rows: 1; Reference Series: -; Operating Temperature Range: -25~+85
footprint CONN-SMD_4P-P1.25_JS_GH125-S04CCA-00
3D model CONN-SMD_4P-P1.25_JS_GH125-S04CCA-00
footprint GH1.25-4P-卧贴
footprint GH1.25-4P-立式
pins: 1, 2, 3, 4, 5, 6

## GH1.25-6P
designator CN?, comment NAME: 7  (hidden comment: A1257WR-S-6P)
插针结构:1x6P;间距:1.25mm;安装方式:-;行距:-;总PIN数:6P;排数:1;每排PIN数:6;参考系列:GH;触头材质:黄铜;; Manufacturer: CJT(长江连接器); Add into BOM: yes; Pins Structure: 1x6P; Pitch: 1.25mm; Number of PINs Per Row: 6; Reference Series: GH; Symbol: A1257WR-S-6P; Device: A1257WR-S-6P; LCSC Part Name: 1x6P 间距:1.25mm 系列:GH 镀锡; Supplier Part: C225129; Manufacturer Part: A1257WR-S-6P; Supplier Footprint: SMD,P=1.25mm; JLCPCB Part Class: Extended Part; Datasheet: https://atta.szlcsc.com/upload/public/pdf/source/20181008/C272994_C9E89FA8A36D0009CAD30AD8C59C2782.pdf; Supplier: LCSC; Convert to PCB: yes; Mounting Style: -; Row Spacing: -; Number of Pins: 6P; Number of Rows: 1; Contact Material: 黄铜; NUMBER: 7
footprint CONN-SMD_A1257WR-S-6P
3D model CONN-SMD_GH1.25-WS-6P
pins: 1, 2, 3, 4, 5, 6, 7, 8

## GH1.25-10PWBPZ
designator U??  (value not drawn)
Manufacturer: BOOMELE(博穆精密); Add into BOM: yes; Name: GH1.25-10PWBPZ; Symbol: GH1.25-10PWBPZ; Device: GH1.25-10PWBPZ; LCSC Part Name: GH1.25-10P卧贴编带; Supplier Part: C2829259; Manufacturer Part: GH1.25-10PWBPZ; Supplier Footprint: -; JLCPCB Part Class: Extended Part; Datasheet: https://atta.szlcsc.com/upload/public/pdf/source/20211125/08A09A4909F58AF780B71FE423A00F7E.pdf; Supplier: LCSC; Convert to PCB: yes
footprint GH1.25-10P
pins: 1, 2, 3, 4, 5, 6, 7, 8, 9, 10, 11, 12

## GH1.25_4P
designator U?
footprint GH1.25_4P (卧贴)
pins: 1, 2, 3, 4

## GH125-2p
designator CN?, comment GH125-S02DCA-00  (value not drawn)
Manufacturer: JS(钜硕电子); Add into BOM: yes; Pitch: 1.25mm; Pins Structure: 1x2P; Number of PINs Per Row: 2; Gender: 公型插针; Current Rating (Max): 1A; Name: GH125-S02DCA-00; Symbol: GH125-S02DCA-00; Device: GH125-S02DCA-00; LCSC Part Name: GH1.25卧式贴片 带扣; Supplier Part: C2886765; Manufacturer Part: GH125-S02DCA-00; Supplier Footprint: SMD,P=1.25mm; JLCPCB Part Class: Extended Part; Datasheet: https://atta.szlcsc.com/upload/public/pdf/source/20210818/CD11791E5ED3EDF45A7009E9C8A2BD4C.pdf; Supplier: LCSC; Convert to PCB: yes; Reference Series: -; Number of Rows: 1; Row Spacing: -; Mounting Style: 卧贴; Operating Temperature Range: -25℃~+85℃
footprint CONN-SMD_2P-P1.25_JUSHUO_GH125-S02DCA-00
footprint GH1.25-2P-卧贴
pins: 1, 2, 3, 4

## GRM21BR71H105KA12L
designator C?, comment 104
PartNumber: GRM21BR71H105KA12L; Manufacturer: MuRata; Polarized: N; CompType: Capacitor; Value: 1uF; ValueDisplayed: 1µF; U/M: EA; Cap_F: 0.000001; Tolerance_%: 10; Value1: Unknown; VDC_V: 50; Value2: 50V; TempCo: X7R; TaMin_C: -55; TaMax_C: 125; Cap_Case: 0805; SymbolVersion: 2008-07-09; PackageReference: 0805; RoHS: Y; MountType: SMT; Technology: Ceramic; Published: 2008-06-19; Publisher: Texas Instruments; LatestRevisionDate: 2013-09-06; ComponentLink1Description: Datasheet link; ComponentLink1URL: http://search.murata.co.jp/Ceramy/PnsearchViewAction.do?HnOFG=ON&HnNFG=ON&SEL_CNT=50&sLang=en&sKey=GRM21BR71H105KA12L&x=9&y=9&search=startwith; Supplier 1: Digi-Key; Supplier Part Number 1: 490-4736-1-ND; Supplier 2: Mouser; Supplier Part Number 2: 81-GRM21BR71H105KA2L; Supplier 3: Farnell; Supplier Part Number 3: 1735541
signal-integrity model Cap
simulation model Cap
footprint 0805_HV
footprint 0805
footprint 0805M
footprint 0805L
footprint LQ_C0603
pins: 1, 2

## GRM32ER71H106KA12L
designator C?, comment 100µF/35V-6.3X7.7
PartNumber: GRM32ER71H106KA12L; Manufacturer: MuRata; Polarized: N; CompType: Capacitor; Value: 10uF; U/M: EA; Cap_F: 0.00001; Tolerance_%: 10; Value1: Unknown; VDC_V: 50; Value2: 50V; TempCo: X7R; TaMin_C: -55; TaMax_C: 125; Cap_Case: 1210; SymbolVersion: 2008-07-09; ValueDisplayed: 100µF/35V; PackageReference: 1210; RoHS: Y; MountType: SMT; Technology: Ceramic; Published: 2008-06-19; Publisher: Texas Instruments; LatestRevisionDate: 2014-05-28; ComponentLink1Description: Datasheet link; ComponentLink1URL: http://www.murata.com/products/catalog/pdf/c02e.pdf; Supplier 1: Digi-Key; Supplier Part Number 1: 490-6544-1-ND; Supplier 2: Mouser; Supplier Part Number 2: 81-GRM32ER71H106KA2L
signal-integrity model Cap
simulation model Cap
footprint 1210
footprint 1210M
footprint 1210L
footprint LQ_C6d3X7d7
pins: 1, 2

## GRM155R71C102KA01D
designator C?, comment 102
PartNumber: GRM155R71C102KA01D; Manufacturer: MuRata; Polarized: N; CompType: Capacitor; Value: 1000pF; ValueDisplayed: 1nF; U/M: EA; Cap_F: 0.000000001; Tolerance_%: 10; Value1: Unknown; VDC_V: 16; Value2: 16V; TempCo: X7R; TaMin_C: -55; TaMax_C: 125; Cap_Case: 0402; SymbolVersion: 2008-07-09; PackageReference: 0402; RoHS: Y; MountType: SMT; Technology: Ceramic; Published: 2008-06-19; Publisher: Texas Instruments; LatestRevisionDate: 2013-12-18; ComponentLink1Description: Datasheet link; ComponentLink1URL: http://search.murata.co.jp/Ceramy/PnsearchViewAction.do?HnOFG=ON&HnNFG=ON&SEL_CNT=50&sLang=en&sKey=GRM155R71C102KA01D&x=9&y=9&search=startwith; Supplier 1: Digi-Key; Supplier Part Number 1: GRM155R71C102KA01D-ND; Supplier 2: Mouser; Supplier Part Number 2: 81-GRM155R71C102KA1D
signal-integrity model Cap
simulation model Cap
footprint 0402
footprint 0402M
footprint 0402L
footprint 0402S
footprint LQ_C0603
pins: 1, 2

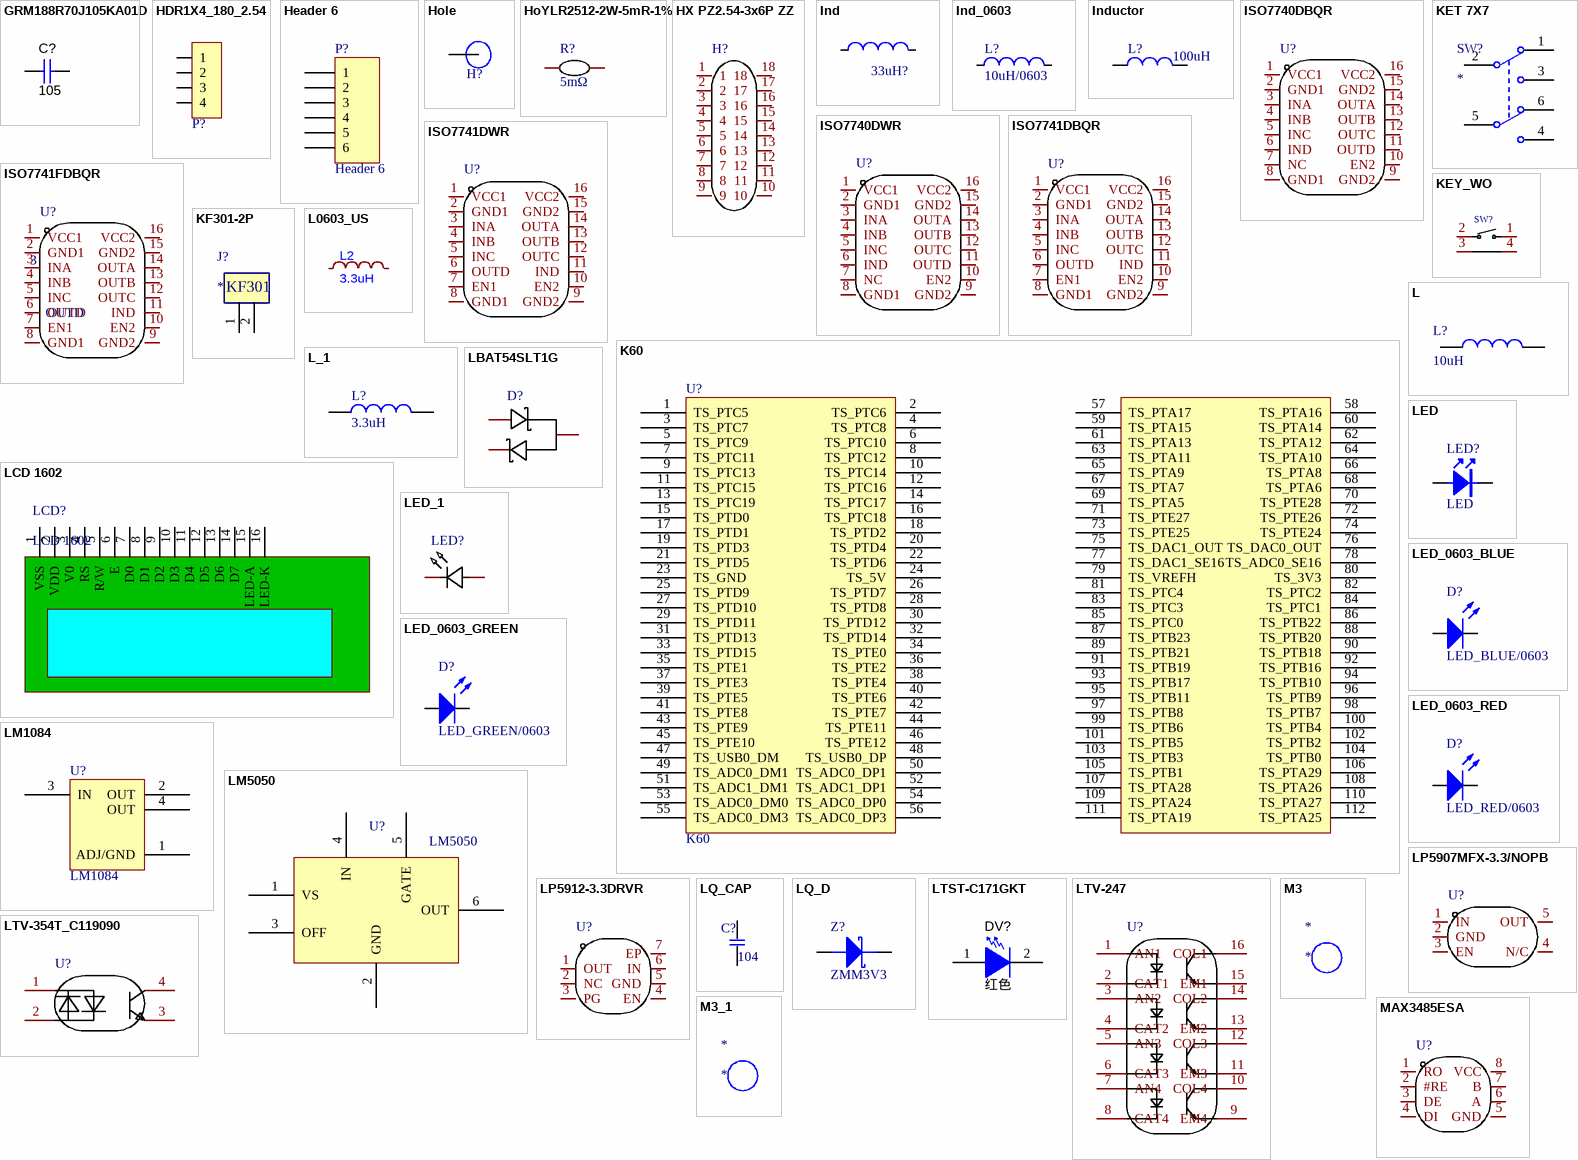
[diagram p2: symbols GRM188R70J105KA01D to MAX3485ESA]

## GRM188R70J105KA01D
designator C?, comment 105
PartNumber: GRM188R70J105KA01D; Manufacturer: MuRata; Polarized: N; CompType: Capacitor; Value: 1uF; ValueDisplayed: 1µF; U/M: EA; Cap_F: 0.000001; Tolerance_%: 10; Value1: Unknown; VDC_V: 6.3; Value2: 6.3V; TempCo: X7R; TaMin_C: -55; TaMax_C: 125; Cap_Case: 0603; SymbolVersion: 2008-07-09; PackageReference: 0603; RoHS: Y; MountType: SMT; Technology: Ceramic; Published: 2008-06-19; Publisher: Texas Instruments; LatestRevisionDate: 2014-05-28; ComponentLink1Description: Datasheet link; ComponentLink1URL: http://search.murata.co.jp/Ceramy/PnsearchViewAction.do?HnOFG=ON&HnNFG=ON&SEL_CNT=50&sLang=en&sKey=GRM188R70J105KA01D&x=9&y=9&search=startwith; Supplier 1: Digi-Key; Supplier Part Number 1: 490-3898-1-ND; Supplier 2: Mouser; Supplier Part Number 2: 81-GRM188R70J105KA01; Supplier 3: Farnell; Supplier Part Number 3: 1845765
signal-integrity model Cap
simulation model Cap
footprint 0603
footprint 0603M
footprint 0603L
footprint 0603_HV
footprint 0603S
footprint LQ_C0603
pins: 1, 2

## HDR1X4_180_2.54
designator P?  (value not drawn)
Header
footprint HDR1X4_180_2.54 (Connector; Header; 4 Position)
pins: 1, 2, 3, 4

## Header 6
designator P?
Header, 6-Pin; LatestRevisionDate: 17-Jul-2002; LatestRevisionNote: Re-released for DXP Platform.; Publisher: Altium Limited
footprint HDR1X6 (Connector; Header; 6 Position)
signal-integrity model Connector
pins: 1, 2, 3, 4, 5, 6

## Hole
designator H?  (value not drawn)
电机的洞
footprint HOLE
pins: 1

## HoYLR2512-2W-5mR-1%
designator R?  value 5mΩ  (hidden comment: HoYLR2512-2W-5mR-1%)
电阻类型:采样电阻;阻值:5mΩ;精度:±1%;功率:2W;安装方式:贴片;; Manufacturer: Milliohm(毫欧); Add into BOM: yes; Tolerance: ±1%; Power(Watts): 2W; Mounting Sytle: 贴片; Symbol: HOYLR2512-2W-5MR-1%; Device: HoYLR2512-2W-5mR-1%; LCSC Part Name: 5mΩ ±1% 2W; Supplier Part: C5375417; Manufacturer Part: HoYLR2512-2W-5mR-1%; Supplier Footprint: 2512; JLCPCB Part Class: Extended Part; Datasheet: https://atta.szlcsc.com/upload/public/pdf/source/20230506/030C75DA7C4694D1A0A3C5A1E352E2F2.pdf; Supplier: LCSC; Convert to PCB: yes; Type: 采样电阻
footprint R2512
3D model R2512_L6.3-W3.2-H0.6
pins: 1, 2

## HX PZ2.54-3x6P ZZ
designator H?  (value not drawn)
插针结构:3x6P;间距:2.54mm;行距:2.54mm;圆针/方针:方针;安装方式:直插;排数:三排;总PIN位数:18P;额定电流:3A;额定电压:1kV;配合针长度:6mm;塑高:2.5mm;端接针长度:3mm;触头材质:黄铜;触头镀层:金;工作温度:-40~+105;颜色:黑色;; Manufacturer: hanxia(韩下); Add into BOM: yes; Pin Structure: 3x6P; Pitch: 2.54mm; Circluar Pins/Square Pins: 方针; Current Rating: 3A; Voltage Rating (Max): 1kV; Symbol: HX PZ2.54-3X6P ZZ; Device: HX PZ2.54-3x6P ZZ; LCSC Part Name: 3x6P 间距:2.54mm 方针 直插; Supplier Part: C32713293; Manufacturer Part: HX PZ2.54-3x6P ZZ; Supplier Footprint: 插件,P=2.54mm; JLCPCB Part Class: Extended Part; Datasheet: https://item.szlcsc.com/datasheet/HX%2520PZ2.54-3x6P%2520ZZ/34444573.html; Supplier: LCSC; Convert to PCB: yes; Row Spacing: 2.54mm; Mounting Type: 直插; Number of Rows: 三排; Number of Pins: 18P; Length of Mating Pin: 6mm; Insulation Height: 2.5mm; Length of End Connection Pin: 3mm; Contact Material: 黄铜; Contact Plating: 金; Operating Temperature: -40~+105; Color: 黑色; Supplementary Features: -
footprint CONN-TH_HX-PZ2.54-3X6P-ZZ
3D model CONN-TH_HX-PZ2.54-3X6P-ZZ
pins: 1, 2, 3, 4, 5, 6, 7, 8, 9, 10, 11, 12, 13, 14, 15, 16, 17, 18

## Ind
designator 33uH?  (value not drawn)
footprint IND_106125 (106125卧式磁环电感)
footprint IND_7*7
footprint IND15*8 (Indpw15*8*15*9mm)
footprint IND_0603 (Chip bead, Body 1.6x0.8mm, 0603, IPC Medium Density)
footprint IND_0805 (Ferrite Bead Chip, Body 2.0x1.2mm, 0805, IPC Medium Density)
footprint IND_62125
footprint IND_20315
pins: 1, 2

## Ind_0603
designator L?  value 10uH/0603  (hidden comment: Ind_0603)
Inductor
footprint IND_0603 (Chip bead, Body 1.6x0.8mm, 0603, IPC Medium Density)
pins: 1, 2